# Altium integrated library VH396-02S-010.IntLib: 1 symbol
Pins are listed as number, name and electrical type; pins without a type are passive.

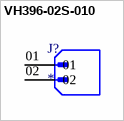
[diagram p0: symbol VH396-02S-010]

## VH396-02S-010
designator J?
VH396 - Valcon 3.96mm 5A Wire-to-Board Straight Locking Power Connector; MP: VH396-02S-010; Price: None; Package: None; Value: *; Check_prices: https://www.snapeda.com/parts/VH396-02S-010/Valcon/view-part/?ref=eda; Availability: In Stock; SnapEDA_Link: https://www.snapeda.com/parts/VH396-02S-010/Valcon/view-part/?ref=snap; MF: Valcon; Purchase-URL: https://pricing.snapeda.com/search/part/VH396-02S-010/?ref=eda
footprint VALCON_VH396-02S-010
pins: 01, 02